# Altium footprint library MotorDriver.PcbLib: 4 footprints
Each footprint in its own frame and in the unit in brackets; x right, y up, seen from the top. Pads: shape width x height; smd on the part's side, far side on the other; paste and mask are expansions set on the pad; w line width, h text height; cw(c..) or ccw(c..) is an arc to the next point about the centre after c.
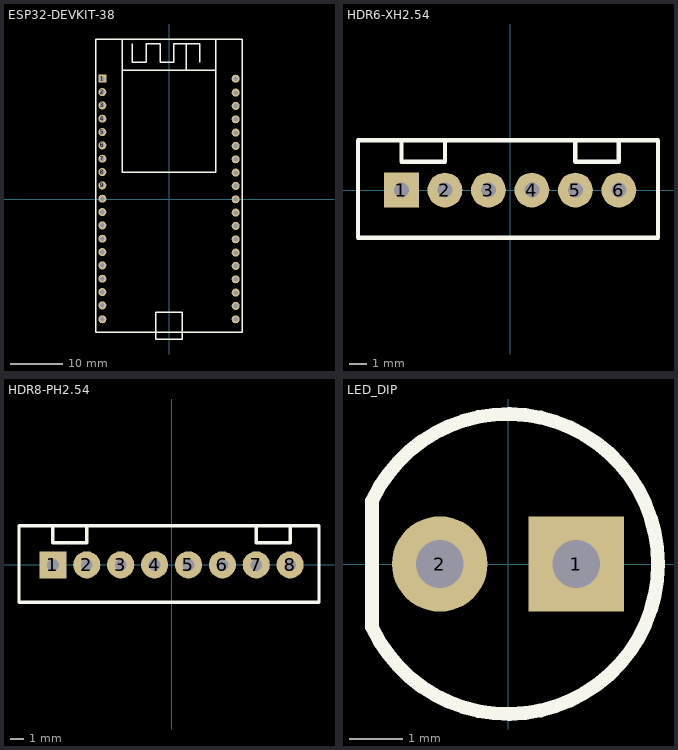
[diagram p0: the footprints below, top view; thin cyan lines are the x and y axes]

## ESP32-DEVKIT-38 [mil] "ESP32开发板-38引脚"
pads (38):
  rect 60x60 hole 35: 1(-500,902)
  round 60 hole 35: 2(-500,802) 3(-500,702) 4(-500,602) 5(-500,502) 6(-500,402) 7(-500,302) 8(-500,202) 9(-500,102) 10(-500,2) 11(-500,-98) 12(-500,-198) 13(-500,-298) 14(-500,-398) 15(-500,-498) 16(-500,-598) 17(-500,-698) 18(-500,-798) 19(-500,-902) 20(500,-902) 21(500,-802) 22(500,-702) 23(500,-602) 24(500,-502) 25(500,-402) 26(500,-302) 27(500,-202) 28(500,-102) 29(500,-2) 30(500,98) 31(500,198) 32(500,298) 33(500,398) 34(500,498) 35(500,598) 36(500,698) 37(500,798) 38(500,902)
Top Overlay:
  lines w10: -350,965 350,965 ; -350,1200 -350,200 350,200 350,1200 ; -275,1165 -275,1025 -170,1025 -170,1165 -65,1165 -65,1025 35,1025 35,1165 130,1165 ; 130,965 130,1165 ; 230,1025 230,1165 130,1165 ; -550,-1000 550,-1000 550,1200 -550,1200 -550,-1000 ; -100,-1050 100,-1050 100,-850 -100,-850 -100,-1050

## HDR6-XH2.54 [mil]
pads (6):
  rect 80x80 hole 35: 1(-250,0)
  round 80 hole 35: 2(-150,0) 3(-50,0) 4(50,0) 5(150,0) 6(250,0)
Top Overlay:
  lines w10: -250,115 -250,65 -150,65 -150,115 ; 150,115 150,65 250,65 250,115 ; -350,-110 340,-110 340,115 -350,115 -350,-110

## HDR8-PH2.54 [mil] "PH2.54座"
pads (8):
  rect 80x80 hole 35: 1(-350,0)
  round 80 hole 35: 2(-250,0) 3(-150,0) 4(-50,0) 5(50,0) 6(150,0) 7(250,0) 8(350,0)
Top Overlay:
  lines w10: -350,115 -350,65 -250,65 -250,110 ; 250,110 250,65 350,65 350,115 ; -450,-110 435,-110 435,115 -450,115 -450,-110

## LED_DIP [mil]
pads (2):
  rect 70x70 hole 35: 1(50,0)
  round 70 hole 35: 2(-50,0)
Top Overlay:
  lines w10: -99.69,-46.49 ccw(c0,0) -99.69,46.49 -99.69,-46.49